# Altium footprint library Relay_IXYS_CPC1927J_eec_0.PcbLib: 1 footprints
Each footprint in its own frame and in the unit in brackets; x right, y up, seen from the top. Pads: shape width x height; smd on the part's side, far side on the other; paste and mask are expansions set on the pad; w line width, h text height; cw(c..) or ccw(c..) is an arc to the next point about the centre after c.
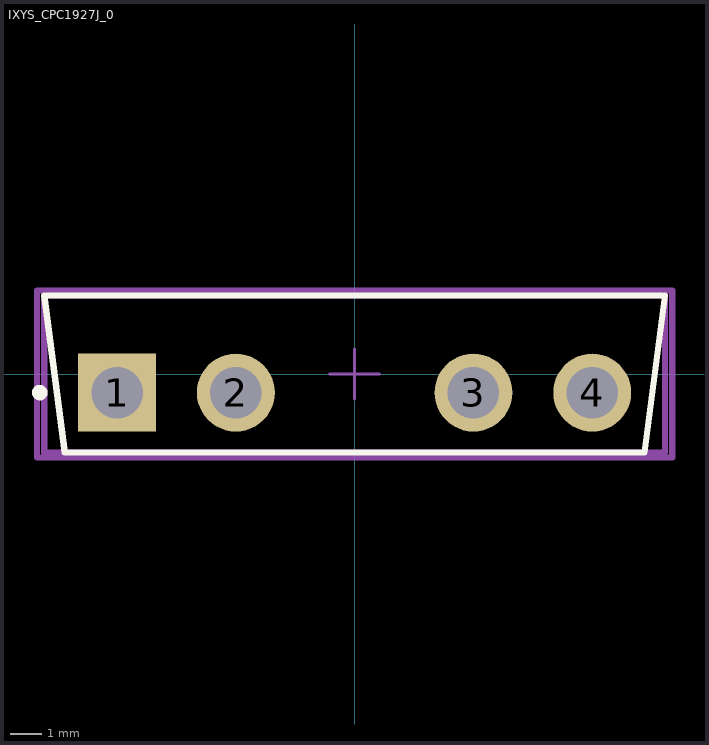
[diagram p0: the footprint, top view; thin cyan lines are the x and y axes]

## IXYS_CPC1927J_0 [mm]
pads (4):
  rect 2.5x2.5 hole 1.65 paste-1000 mask+0: 1(-7.62,-0.597)
  round 2.5 hole 1.65 paste-1000 mask+0: 2(-3.81,-0.597) 3(3.81,-0.597) 4(7.62,-0.597)
Top Overlay:
  circle w0.25: c-10.1,-0.597 r0.125
  lines w0.2: -9.957,2.515 -9.3,-2.515 9.3,-2.515 9.957,2.515 ; -9.87,2.515 9.87,2.515
Mechanical 10:
  lines w0.2: -10.184,-2.678 10.184,-2.678 10.184,2.678 -10.184,2.678 -10.184,-2.678
  text ".Designator" at 0,0.188 h1
Mechanical 12:
  lines w0.2: -9.957,-2.515 9.957,-2.515 9.957,2.515 -9.957,2.515 -9.957,-2.515
Mechanical 15:
  lines w0.1: -0.803,0 0.803,0 ; 0,-0.803 0,0.803
  lines w0.2: -10.184,-2.678 10.184,-2.678 10.184,2.678 -10.184,2.678 -10.184,-2.678
3D body "Relay_IXYS_CPC1927J_eec.STEP": height 0.25, standoff 0, extent -10.184,-2.678 10.184,2.678